# Altium integrated library Microchip Mixed Signal.IntLib: 1399 symbols (part 25 of 39)
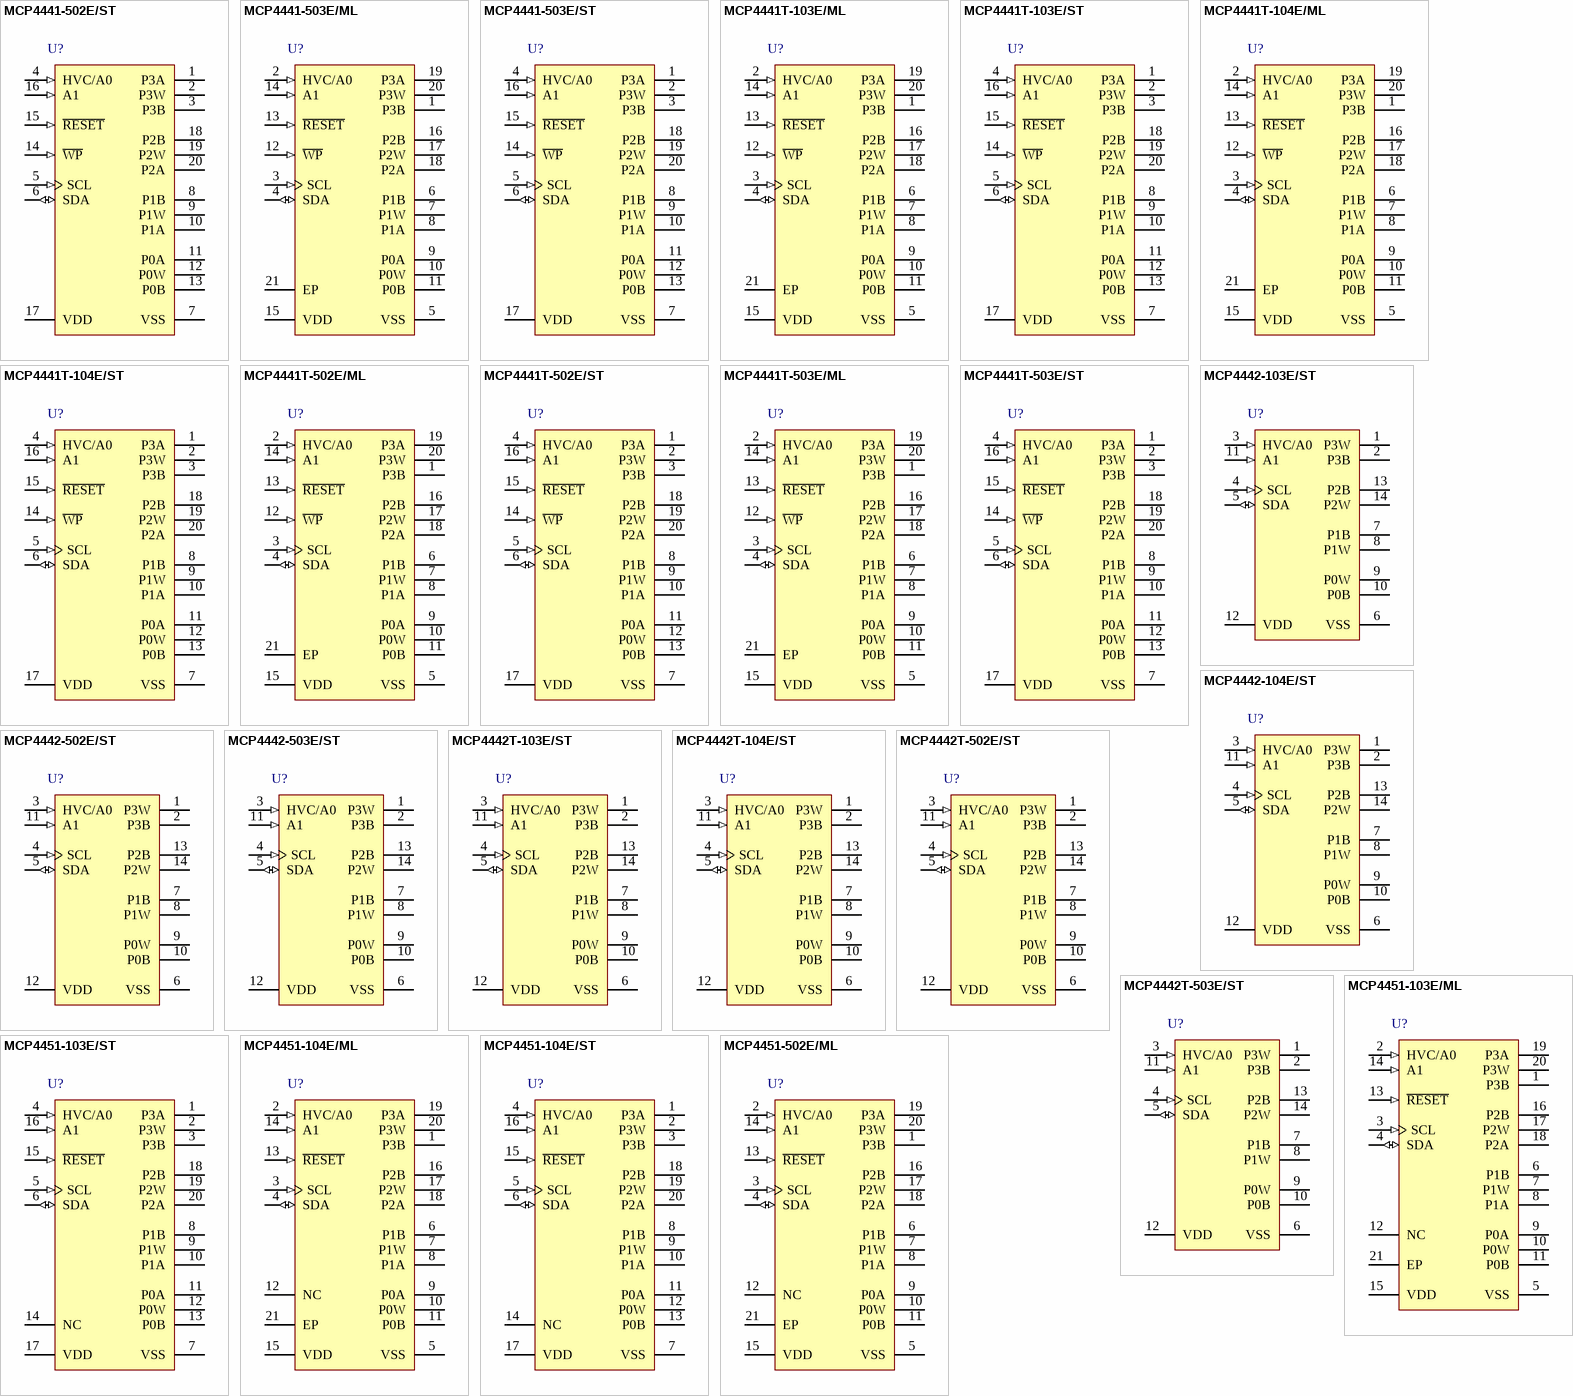
[diagram p68: symbols MCP4441-502E/ST to MCP4451-502E/ML]

## MCP4451-104E/ML
designator U?
7/8-Bit Volatile Quad Digital POT with I2C Interface, 20-Pin QFN, Extended Temperature; Manufacturer: Microchip; PartNumber: MCP4451-104E/ML; DatasheetVersion: revA, Nov-2010; PackageVersion: revBB, Aug-2009; PackageReference: QFN-ML20; PackageDescription: 20-Lead Plastic Quad Flat, No Lead Package (ML) - 4x4x0.9 mm Body [QFN]; Supplier 1: Digi-Key; Supplier Part Number 1: MCP4451-104E/ML-ND; Supplier 2: Mouser; Supplier Part Number 2: 579-MCP4451-104E/ML; Mounting Technology: Surface Mount; ComponentLink1Description: Manufacturer URL; ComponentLink1URL: http://www.microchip.com/; ComponentLink2Description: Datasheet; ComponentLink2URL: http://ww1.microchip.com/downloads/en/DeviceDoc/MCP4451.pdf; ComponentLink3Description: Package Specification; ComponentLink3URL: http://www.microchip.com/stellent/groups/techpub_sg/documents/packagingspec/en012702.pdf
footprint QFN-ML20_N (QFN, 20-Leads, Body 4x4mm, Pitch 0.5mm, Thermal Pad 2.8x2.8mm, IPC Medium Density)
footprint QFN-ML20_L (QFN, 20-Leads, Body 4x4mm, Pitch 0.5mm, Thermal Pad 2.8x2.8mm, IPC High Density)
footprint QFN-ML20_M (QFN, 20-Leads, Body 4x4mm, Pitch 0.5mm, Thermal Pad 2.8x2.8mm, IPC Low Density)
pins: 1 P3B, 2 HVC/A0 (in), 3 SCL (in), 4 SDA (io), 5 VSS (power), 6 P1B, 7 P1W, 8 P1A, 9 P0A, 10 P0W, 11 P0B, 12 NC, 13 ~{RESET} (in), 14 A1 (in), 15 VDD (power), 16 P2B, 17 P2W, 18 P2A, 19 P3A, 20 P3W, 21 EP

## MCP4451-104E/ST
designator U?
7/8-Bit Volatile Quad Digital POT with I2C Interface, 20-Pin TSSOP, Extended Temperature; Manufacturer: Microchip; PartNumber: MCP4451-104E/ST; DatasheetVersion: revA, Nov-2010; PackageVersion: revBB, Aug-2009; PackageReference: TSSOP-ST20; PackageDescription: 20-Lead Plastic Thin Shrink Small Outline (ST) - 4.4mm Body [TSSOP]; Supplier 1: Digi-Key; Supplier Part Number 1: MCP4451-104E/ST-ND; Supplier 2: Mouser; Supplier Part Number 2: 579-MCP4451-104E/ST; Mounting Technology: Surface Mount; Code_JEDEC: MO-153-AC; ComponentLink1Description: Manufacturer URL; ComponentLink1URL: http://www.microchip.com/; ComponentLink2Description: Datasheet; ComponentLink2URL: http://ww1.microchip.com/downloads/en/DeviceDoc/MCP4451.pdf; ComponentLink3Description: Package Specification; ComponentLink3URL: http://www.microchip.com/stellent/groups/techpub_sg/documents/packagingspec/en012702.pdf
footprint TSSOP-ST20_N (TSOP, 20-Leads, Body 6.5x4.4mm, Pitch 0.65mm, IPC Medium Density)
footprint TSSOP-ST20_L (TSOP, 20-Leads, Body 6.5x4.4mm, Pitch 0.65mm, IPC High Density)
footprint TSSOP-ST20_M (TSOP, 20-Leads, Body 6.5x4.4mm, Pitch 0.65mm, IPC Low Density)
pins: 1 P3A, 2 P3W, 3 P3B, 4 HVC/A0 (in), 5 SCL (in), 6 SDA (io), 7 VSS (power), 8 P1B, 9 P1W, 10 P1A, 11 P0A, 12 P0W, 13 P0B, 14 NC, 15 ~{RESET} (in), 16 A1 (in), 17 VDD (power), 18 P2B, 19 P2W, 20 P2A

## MCP4451-502E/ML
designator U?
7/8-Bit Volatile Quad Digital POT with I2C Interface, 20-Pin QFN, Extended Temperature; Manufacturer: Microchip; PartNumber: MCP4451-502E/ML; DatasheetVersion: revA, Nov-2010; PackageVersion: revBB, Aug-2009; PackageReference: QFN-ML20; PackageDescription: 20-Lead Plastic Quad Flat, No Lead Package (ML) - 4x4x0.9 mm Body [QFN]; Supplier 1: Digi-Key; Supplier Part Number 1: MCP4451-502E/ML-ND; Supplier 2: Mouser; Supplier Part Number 2: 579-MCP4451-502E/ML; Mounting Technology: Surface Mount; ComponentLink1Description: Manufacturer URL; ComponentLink1URL: http://www.microchip.com/; ComponentLink2Description: Datasheet; ComponentLink2URL: http://ww1.microchip.com/downloads/en/DeviceDoc/MCP4451.pdf; ComponentLink3Description: Package Specification; ComponentLink3URL: http://www.microchip.com/stellent/groups/techpub_sg/documents/packagingspec/en012702.pdf
footprint QFN-ML20_N (QFN, 20-Leads, Body 4x4mm, Pitch 0.5mm, Thermal Pad 2.8x2.8mm, IPC Medium Density)
footprint QFN-ML20_L (QFN, 20-Leads, Body 4x4mm, Pitch 0.5mm, Thermal Pad 2.8x2.8mm, IPC High Density)
footprint QFN-ML20_M (QFN, 20-Leads, Body 4x4mm, Pitch 0.5mm, Thermal Pad 2.8x2.8mm, IPC Low Density)
pins: 1 P3B, 2 HVC/A0 (in), 3 SCL (in), 4 SDA (io), 5 VSS (power), 6 P1B, 7 P1W, 8 P1A, 9 P0A, 10 P0W, 11 P0B, 12 NC, 13 ~{RESET} (in), 14 A1 (in), 15 VDD (power), 16 P2B, 17 P2W, 18 P2A, 19 P3A, 20 P3W, 21 EP

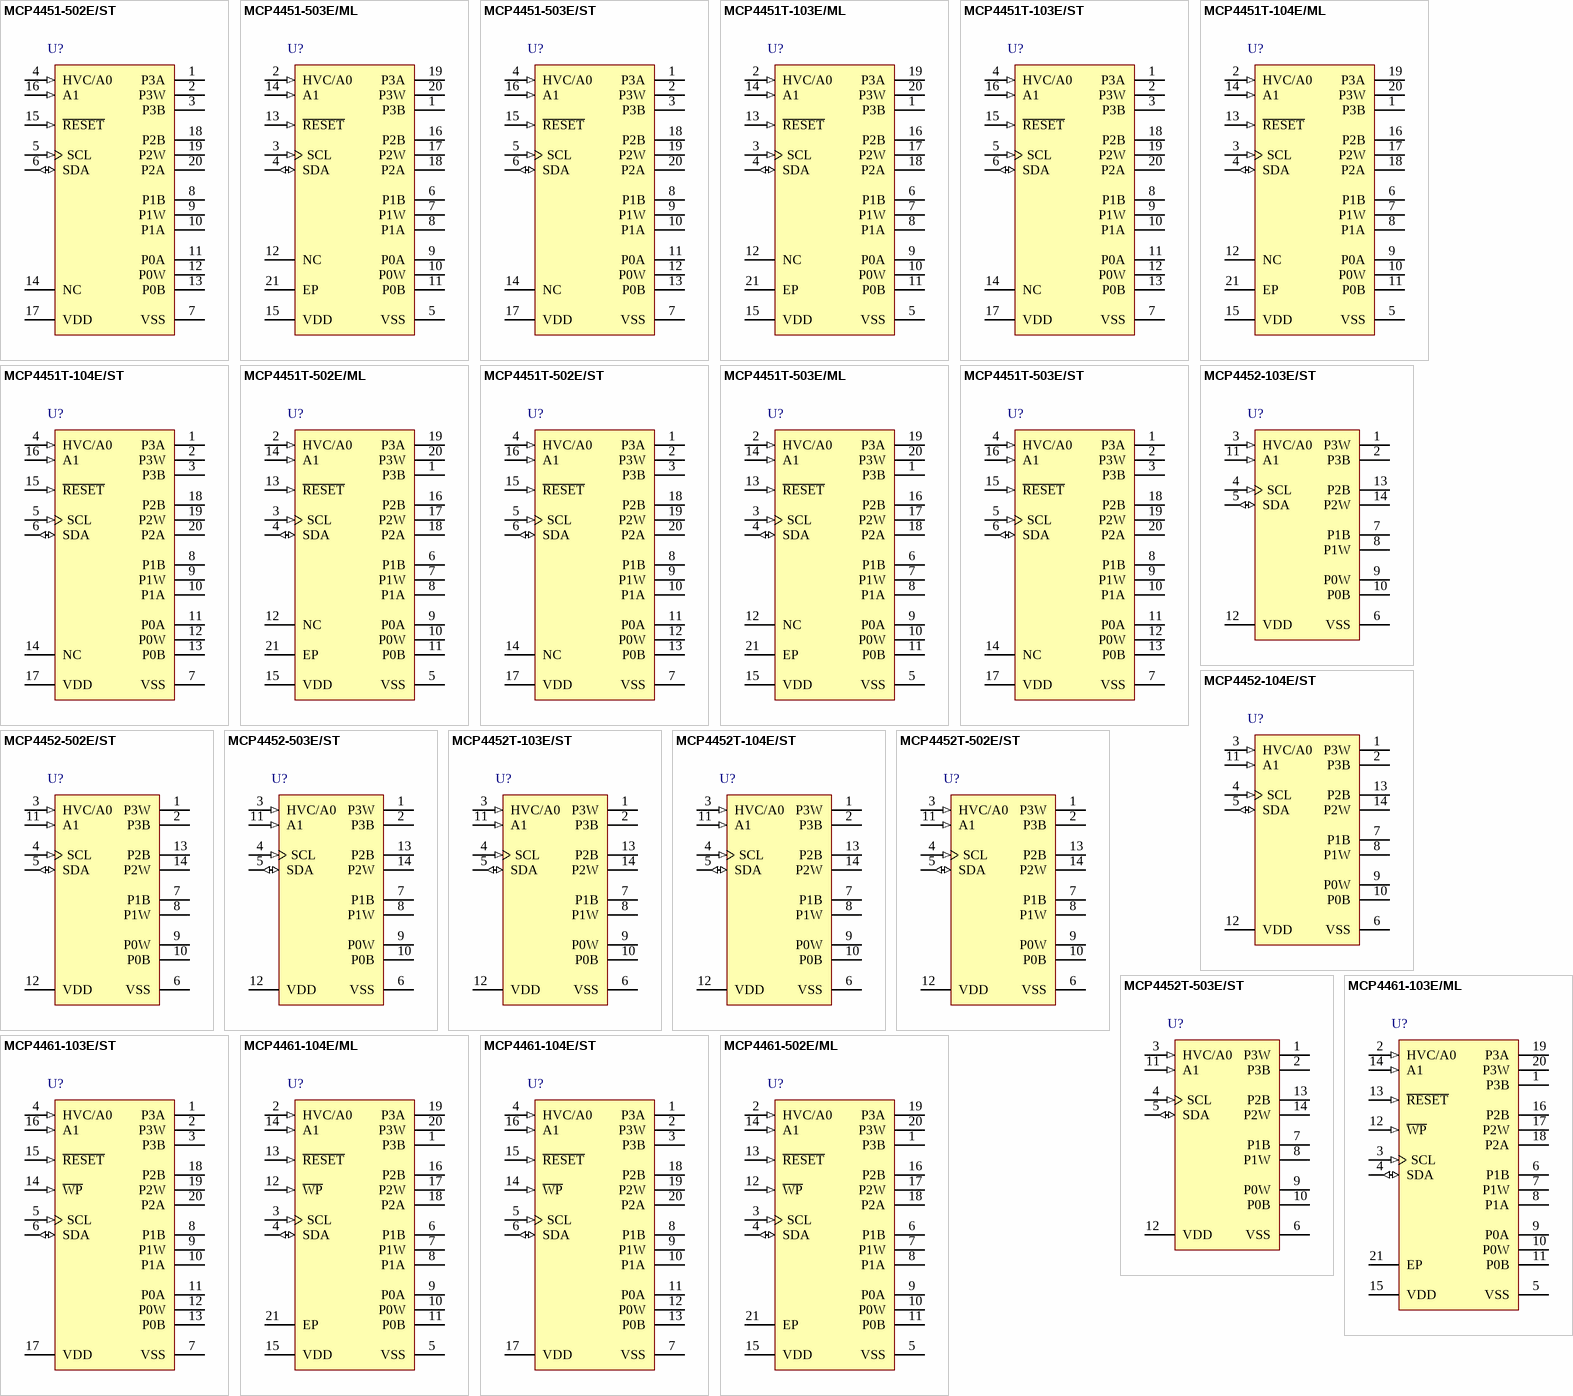
[diagram p26: symbols MCP4451-502E/ST to MCP4461-502E/ML]

## MCP4451-502E/ST
designator U?
7/8-Bit Volatile Quad Digital POT with I2C Interface, 20-Pin TSSOP, Extended Temperature; Manufacturer: Microchip; PartNumber: MCP4451-502E/ST; DatasheetVersion: revA, Nov-2010; PackageVersion: revBB, Aug-2009; PackageReference: TSSOP-ST20; PackageDescription: 20-Lead Plastic Thin Shrink Small Outline (ST) - 4.4mm Body [TSSOP]; Supplier 1: Digi-Key; Supplier Part Number 1: MCP4451-502E/ST-ND; Supplier 2: Mouser; Supplier Part Number 2: 579-MCP4451-502E/ST; Mounting Technology: Surface Mount; Code_JEDEC: MO-153-AC; ComponentLink1Description: Manufacturer URL; ComponentLink1URL: http://www.microchip.com/; ComponentLink2Description: Datasheet; ComponentLink2URL: http://ww1.microchip.com/downloads/en/DeviceDoc/MCP4451.pdf; ComponentLink3Description: Package Specification; ComponentLink3URL: http://www.microchip.com/stellent/groups/techpub_sg/documents/packagingspec/en012702.pdf
footprint TSSOP-ST20_N (TSOP, 20-Leads, Body 6.5x4.4mm, Pitch 0.65mm, IPC Medium Density)
footprint TSSOP-ST20_L (TSOP, 20-Leads, Body 6.5x4.4mm, Pitch 0.65mm, IPC High Density)
footprint TSSOP-ST20_M (TSOP, 20-Leads, Body 6.5x4.4mm, Pitch 0.65mm, IPC Low Density)
pins: 1 P3A, 2 P3W, 3 P3B, 4 HVC/A0 (in), 5 SCL (in), 6 SDA (io), 7 VSS (power), 8 P1B, 9 P1W, 10 P1A, 11 P0A, 12 P0W, 13 P0B, 14 NC, 15 ~{RESET} (in), 16 A1 (in), 17 VDD (power), 18 P2B, 19 P2W, 20 P2A

## MCP4451-503E/ML
designator U?
7/8-Bit Volatile Quad Digital POT with I2C Interface, 20-Pin QFN, Extended Temperature; Manufacturer: Microchip; PartNumber: MCP4451-503E/ML; DatasheetVersion: revA, Nov-2010; PackageVersion: revBB, Aug-2009; PackageReference: QFN-ML20; PackageDescription: 20-Lead Plastic Quad Flat, No Lead Package (ML) - 4x4x0.9 mm Body [QFN]; Supplier 1: Digi-Key; Supplier Part Number 1: MCP4451-503E/ML-ND; Supplier 2: Mouser; Supplier Part Number 2: 579-MCP4451-503E/ML; Mounting Technology: Surface Mount; ComponentLink1Description: Manufacturer URL; ComponentLink1URL: http://www.microchip.com/; ComponentLink2Description: Datasheet; ComponentLink2URL: http://ww1.microchip.com/downloads/en/DeviceDoc/MCP4451.pdf; ComponentLink3Description: Package Specification; ComponentLink3URL: http://www.microchip.com/stellent/groups/techpub_sg/documents/packagingspec/en012702.pdf
footprint QFN-ML20_N (QFN, 20-Leads, Body 4x4mm, Pitch 0.5mm, Thermal Pad 2.8x2.8mm, IPC Medium Density)
footprint QFN-ML20_L (QFN, 20-Leads, Body 4x4mm, Pitch 0.5mm, Thermal Pad 2.8x2.8mm, IPC High Density)
footprint QFN-ML20_M (QFN, 20-Leads, Body 4x4mm, Pitch 0.5mm, Thermal Pad 2.8x2.8mm, IPC Low Density)
pins: 1 P3B, 2 HVC/A0 (in), 3 SCL (in), 4 SDA (io), 5 VSS (power), 6 P1B, 7 P1W, 8 P1A, 9 P0A, 10 P0W, 11 P0B, 12 NC, 13 ~{RESET} (in), 14 A1 (in), 15 VDD (power), 16 P2B, 17 P2W, 18 P2A, 19 P3A, 20 P3W, 21 EP

## MCP4451-503E/ST
designator U?
7/8-Bit Volatile Quad Digital POT with I2C Interface, 20-Pin TSSOP, Extended Temperature; Manufacturer: Microchip; PartNumber: MCP4451-503E/ST; DatasheetVersion: revA, Nov-2010; PackageVersion: revBB, Aug-2009; PackageReference: TSSOP-ST20; PackageDescription: 20-Lead Plastic Thin Shrink Small Outline (ST) - 4.4mm Body [TSSOP]; Supplier 1: Digi-Key; Supplier Part Number 1: MCP4451-503E/ST-ND; Supplier 2: Mouser; Supplier Part Number 2: 579-MCP4451-503E/ST; Mounting Technology: Surface Mount; Code_JEDEC: MO-153-AC; ComponentLink1Description: Manufacturer URL; ComponentLink1URL: http://www.microchip.com/; ComponentLink2Description: Datasheet; ComponentLink2URL: http://ww1.microchip.com/downloads/en/DeviceDoc/MCP4451.pdf; ComponentLink3Description: Package Specification; ComponentLink3URL: http://www.microchip.com/stellent/groups/techpub_sg/documents/packagingspec/en012702.pdf
footprint TSSOP-ST20_N (TSOP, 20-Leads, Body 6.5x4.4mm, Pitch 0.65mm, IPC Medium Density)
footprint TSSOP-ST20_L (TSOP, 20-Leads, Body 6.5x4.4mm, Pitch 0.65mm, IPC High Density)
footprint TSSOP-ST20_M (TSOP, 20-Leads, Body 6.5x4.4mm, Pitch 0.65mm, IPC Low Density)
pins: 1 P3A, 2 P3W, 3 P3B, 4 HVC/A0 (in), 5 SCL (in), 6 SDA (io), 7 VSS (power), 8 P1B, 9 P1W, 10 P1A, 11 P0A, 12 P0W, 13 P0B, 14 NC, 15 ~{RESET} (in), 16 A1 (in), 17 VDD (power), 18 P2B, 19 P2W, 20 P2A

## MCP4451T-103E/ML
designator U?
7/8-Bit Volatile Quad Digital POT with I2C Interface, 20-Pin QFN, Extended Temperature, Tape and Reel; Manufacturer: Microchip; PartNumber: MCP4451T-103E/ML; DatasheetVersion: revA, Nov-2010; PackageVersion: revBB, Aug-2009; PackageReference: QFN-ML20; PackageDescription: 20-Lead Plastic Quad Flat, No Lead Package (ML) - 4x4x0.9 mm Body [QFN]; Mounting Technology: Surface Mount; ComponentLink1Description: Manufacturer URL; ComponentLink1URL: http://www.microchip.com/; ComponentLink2Description: Datasheet; ComponentLink2URL: http://ww1.microchip.com/downloads/en/DeviceDoc/MCP4451.pdf; ComponentLink3Description: Package Specification; ComponentLink3URL: http://www.microchip.com/stellent/groups/techpub_sg/documents/packagingspec/en012702.pdf
footprint QFN-ML20_N (QFN, 20-Leads, Body 4x4mm, Pitch 0.5mm, Thermal Pad 2.8x2.8mm, IPC Medium Density)
footprint QFN-ML20_L (QFN, 20-Leads, Body 4x4mm, Pitch 0.5mm, Thermal Pad 2.8x2.8mm, IPC High Density)
footprint QFN-ML20_M (QFN, 20-Leads, Body 4x4mm, Pitch 0.5mm, Thermal Pad 2.8x2.8mm, IPC Low Density)
pins: 1 P3B, 2 HVC/A0 (in), 3 SCL (in), 4 SDA (io), 5 VSS (power), 6 P1B, 7 P1W, 8 P1A, 9 P0A, 10 P0W, 11 P0B, 12 NC, 13 ~{RESET} (in), 14 A1 (in), 15 VDD (power), 16 P2B, 17 P2W, 18 P2A, 19 P3A, 20 P3W, 21 EP

## MCP4451T-103E/ST
designator U?
7/8-Bit Volatile Quad Digital POT with I2C Interface, 20-Pin TSSOP, Extended Temperature, Tape and Reel; Manufacturer: Microchip; PartNumber: MCP4451T-103E/ST; DatasheetVersion: revA, Nov-2010; PackageVersion: revBB, Aug-2009; PackageReference: TSSOP-ST20; PackageDescription: 20-Lead Plastic Thin Shrink Small Outline (ST) - 4.4mm Body [TSSOP]; Supplier 1: Digi-Key; Supplier Part Number 1: MCP4451T-103E/ST-ND; Supplier 2: Newark; Supplier Part Number 2: 47W6600; Supplier 3: Mouser; Supplier Part Number 3: 579-MCP4451T-103E/ST; Mounting Technology: Surface Mount; Code_JEDEC: MO-153-AC; ComponentLink1Description: Manufacturer URL; ComponentLink1URL: http://www.microchip.com/; ComponentLink2Description: Datasheet; ComponentLink2URL: http://ww1.microchip.com/downloads/en/DeviceDoc/MCP4451.pdf; ComponentLink3Description: Package Specification; ComponentLink3URL: http://www.microchip.com/stellent/groups/techpub_sg/documents/packagingspec/en012702.pdf
footprint TSSOP-ST20_N (TSOP, 20-Leads, Body 6.5x4.4mm, Pitch 0.65mm, IPC Medium Density)
footprint TSSOP-ST20_L (TSOP, 20-Leads, Body 6.5x4.4mm, Pitch 0.65mm, IPC High Density)
footprint TSSOP-ST20_M (TSOP, 20-Leads, Body 6.5x4.4mm, Pitch 0.65mm, IPC Low Density)
pins: 1 P3A, 2 P3W, 3 P3B, 4 HVC/A0 (in), 5 SCL (in), 6 SDA (io), 7 VSS (power), 8 P1B, 9 P1W, 10 P1A, 11 P0A, 12 P0W, 13 P0B, 14 NC, 15 ~{RESET} (in), 16 A1 (in), 17 VDD (power), 18 P2B, 19 P2W, 20 P2A

## MCP4451T-104E/ML
designator U?
7/8-Bit Volatile Quad Digital POT with I2C Interface, 20-Pin QFN, Extended Temperature, Tape and Reel; Manufacturer: Microchip; PartNumber: MCP4451T-104E/ML; DatasheetVersion: revA, Nov-2010; PackageVersion: revBB, Aug-2009; PackageReference: QFN-ML20; PackageDescription: 20-Lead Plastic Quad Flat, No Lead Package (ML) - 4x4x0.9 mm Body [QFN]; Supplier 1: Digi-Key; Supplier Part Number 1: MCP4451T-104E/ML-ND; Supplier 2: Newark; Supplier Part Number 2: 47W6601; Supplier 3: Mouser; Supplier Part Number 3: 579-MCP4451T-104E/ML; Mounting Technology: Surface Mount; ComponentLink1Description: Manufacturer URL; ComponentLink1URL: http://www.microchip.com/; ComponentLink2Description: Datasheet; ComponentLink2URL: http://ww1.microchip.com/downloads/en/DeviceDoc/MCP4451.pdf; ComponentLink3Description: Package Specification; ComponentLink3URL: http://www.microchip.com/stellent/groups/techpub_sg/documents/packagingspec/en012702.pdf
footprint QFN-ML20_N (QFN, 20-Leads, Body 4x4mm, Pitch 0.5mm, Thermal Pad 2.8x2.8mm, IPC Medium Density)
footprint QFN-ML20_L (QFN, 20-Leads, Body 4x4mm, Pitch 0.5mm, Thermal Pad 2.8x2.8mm, IPC High Density)
footprint QFN-ML20_M (QFN, 20-Leads, Body 4x4mm, Pitch 0.5mm, Thermal Pad 2.8x2.8mm, IPC Low Density)
pins: 1 P3B, 2 HVC/A0 (in), 3 SCL (in), 4 SDA (io), 5 VSS (power), 6 P1B, 7 P1W, 8 P1A, 9 P0A, 10 P0W, 11 P0B, 12 NC, 13 ~{RESET} (in), 14 A1 (in), 15 VDD (power), 16 P2B, 17 P2W, 18 P2A, 19 P3A, 20 P3W, 21 EP

## MCP4451T-104E/ST
designator U?
7/8-Bit Volatile Quad Digital POT with I2C Interface, 20-Pin TSSOP, Extended Temperature, Tape and Reel; Manufacturer: Microchip; PartNumber: MCP4451T-104E/ST; DatasheetVersion: revA, Nov-2010; PackageVersion: revBB, Aug-2009; PackageReference: TSSOP-ST20; PackageDescription: 20-Lead Plastic Thin Shrink Small Outline (ST) - 4.4mm Body [TSSOP]; Supplier 1: Digi-Key; Supplier Part Number 1: MCP4451T-104E/ST-ND; Supplier 2: Newark; Supplier Part Number 2: 47W6602; Supplier 3: Mouser; Supplier Part Number 3: 579-MCP4451T-104E/ST; Mounting Technology: Surface Mount; Code_JEDEC: MO-153-AC; ComponentLink1Description: Manufacturer URL; ComponentLink1URL: http://www.microchip.com/; ComponentLink2Description: Datasheet; ComponentLink2URL: http://ww1.microchip.com/downloads/en/DeviceDoc/MCP4451.pdf; ComponentLink3Description: Package Specification; ComponentLink3URL: http://www.microchip.com/stellent/groups/techpub_sg/documents/packagingspec/en012702.pdf
footprint TSSOP-ST20_N (TSOP, 20-Leads, Body 6.5x4.4mm, Pitch 0.65mm, IPC Medium Density)
footprint TSSOP-ST20_L (TSOP, 20-Leads, Body 6.5x4.4mm, Pitch 0.65mm, IPC High Density)
footprint TSSOP-ST20_M (TSOP, 20-Leads, Body 6.5x4.4mm, Pitch 0.65mm, IPC Low Density)
pins: 1 P3A, 2 P3W, 3 P3B, 4 HVC/A0 (in), 5 SCL (in), 6 SDA (io), 7 VSS (power), 8 P1B, 9 P1W, 10 P1A, 11 P0A, 12 P0W, 13 P0B, 14 NC, 15 ~{RESET} (in), 16 A1 (in), 17 VDD (power), 18 P2B, 19 P2W, 20 P2A

## MCP4451T-502E/ML
designator U?
7/8-Bit Volatile Quad Digital POT with I2C Interface, 20-Pin QFN, Extended Temperature, Tape and Reel; Manufacturer: Microchip; PartNumber: MCP4451T-502E/ML; DatasheetVersion: revA, Nov-2010; PackageVersion: revBB, Aug-2009; PackageReference: QFN-ML20; PackageDescription: 20-Lead Plastic Quad Flat, No Lead Package (ML) - 4x4x0.9 mm Body [QFN]; Supplier 1: Digi-Key; Supplier Part Number 1: MCP4451T-502E/ML-ND; Supplier 2: Newark; Supplier Part Number 2: 47W6603; Supplier 3: Mouser; Supplier Part Number 3: 579-MCP4451T-502E/ML; Mounting Technology: Surface Mount; ComponentLink1Description: Manufacturer URL; ComponentLink1URL: http://www.microchip.com/; ComponentLink2Description: Datasheet; ComponentLink2URL: http://ww1.microchip.com/downloads/en/DeviceDoc/MCP4451.pdf; ComponentLink3Description: Package Specification; ComponentLink3URL: http://www.microchip.com/stellent/groups/techpub_sg/documents/packagingspec/en012702.pdf
footprint QFN-ML20_N (QFN, 20-Leads, Body 4x4mm, Pitch 0.5mm, Thermal Pad 2.8x2.8mm, IPC Medium Density)
footprint QFN-ML20_L (QFN, 20-Leads, Body 4x4mm, Pitch 0.5mm, Thermal Pad 2.8x2.8mm, IPC High Density)
footprint QFN-ML20_M (QFN, 20-Leads, Body 4x4mm, Pitch 0.5mm, Thermal Pad 2.8x2.8mm, IPC Low Density)
pins: 1 P3B, 2 HVC/A0 (in), 3 SCL (in), 4 SDA (io), 5 VSS (power), 6 P1B, 7 P1W, 8 P1A, 9 P0A, 10 P0W, 11 P0B, 12 NC, 13 ~{RESET} (in), 14 A1 (in), 15 VDD (power), 16 P2B, 17 P2W, 18 P2A, 19 P3A, 20 P3W, 21 EP

## MCP4451T-502E/ST
designator U?
7/8-Bit Volatile Quad Digital POT with I2C Interface, 20-Pin TSSOP, Extended Temperature, Tape and Reel; Manufacturer: Microchip; PartNumber: MCP4451T-502E/ST; DatasheetVersion: revA, Nov-2010; PackageVersion: revBB, Aug-2009; PackageReference: TSSOP-ST20; PackageDescription: 20-Lead Plastic Thin Shrink Small Outline (ST) - 4.4mm Body [TSSOP]; Supplier 1: Digi-Key; Supplier Part Number 1: MCP4451T-502E/ST-ND; Supplier 2: Newark; Supplier Part Number 2: 47W6604; Supplier 3: Mouser; Supplier Part Number 3: 579-MCP4451T-502E/ST; Mounting Technology: Surface Mount; Code_JEDEC: MO-153-AC; ComponentLink1Description: Manufacturer URL; ComponentLink1URL: http://www.microchip.com/; ComponentLink2Description: Datasheet; ComponentLink2URL: http://ww1.microchip.com/downloads/en/DeviceDoc/MCP4451.pdf; ComponentLink3Description: Package Specification; ComponentLink3URL: http://www.microchip.com/stellent/groups/techpub_sg/documents/packagingspec/en012702.pdf
footprint TSSOP-ST20_N (TSOP, 20-Leads, Body 6.5x4.4mm, Pitch 0.65mm, IPC Medium Density)
footprint TSSOP-ST20_L (TSOP, 20-Leads, Body 6.5x4.4mm, Pitch 0.65mm, IPC High Density)
footprint TSSOP-ST20_M (TSOP, 20-Leads, Body 6.5x4.4mm, Pitch 0.65mm, IPC Low Density)
pins: 1 P3A, 2 P3W, 3 P3B, 4 HVC/A0 (in), 5 SCL (in), 6 SDA (io), 7 VSS (power), 8 P1B, 9 P1W, 10 P1A, 11 P0A, 12 P0W, 13 P0B, 14 NC, 15 ~{RESET} (in), 16 A1 (in), 17 VDD (power), 18 P2B, 19 P2W, 20 P2A

## MCP4451T-503E/ML
designator U?
7/8-Bit Volatile Quad Digital POT with I2C Interface, 20-Pin QFN, Extended Temperature, Tape and Reel; Manufacturer: Microchip; PartNumber: MCP4451T-503E/ML; DatasheetVersion: revA, Nov-2010; PackageVersion: revBB, Aug-2009; PackageReference: QFN-ML20; PackageDescription: 20-Lead Plastic Quad Flat, No Lead Package (ML) - 4x4x0.9 mm Body [QFN]; Supplier 1: Digi-Key; Supplier Part Number 1: MCP4451T-503E/ML-ND; Supplier 2: Newark; Supplier Part Number 2: 47W6605; Supplier 3: Mouser; Supplier Part Number 3: 579-MCP4451T-503E/ML; Mounting Technology: Surface Mount; ComponentLink1Description: Manufacturer URL; ComponentLink1URL: http://www.microchip.com/; ComponentLink2Description: Datasheet; ComponentLink2URL: http://ww1.microchip.com/downloads/en/DeviceDoc/MCP4451.pdf; ComponentLink3Description: Package Specification; ComponentLink3URL: http://www.microchip.com/stellent/groups/techpub_sg/documents/packagingspec/en012702.pdf
footprint QFN-ML20_N (QFN, 20-Leads, Body 4x4mm, Pitch 0.5mm, Thermal Pad 2.8x2.8mm, IPC Medium Density)
footprint QFN-ML20_L (QFN, 20-Leads, Body 4x4mm, Pitch 0.5mm, Thermal Pad 2.8x2.8mm, IPC High Density)
footprint QFN-ML20_M (QFN, 20-Leads, Body 4x4mm, Pitch 0.5mm, Thermal Pad 2.8x2.8mm, IPC Low Density)
pins: 1 P3B, 2 HVC/A0 (in), 3 SCL (in), 4 SDA (io), 5 VSS (power), 6 P1B, 7 P1W, 8 P1A, 9 P0A, 10 P0W, 11 P0B, 12 NC, 13 ~{RESET} (in), 14 A1 (in), 15 VDD (power), 16 P2B, 17 P2W, 18 P2A, 19 P3A, 20 P3W, 21 EP

## MCP4451T-503E/ST
designator U?
7/8-Bit Volatile Quad Digital POT with I2C Interface, 20-Pin TSSOP, Extended Temperature, Tape and Reel; Manufacturer: Microchip; PartNumber: MCP4451T-503E/ST; DatasheetVersion: revA, Nov-2010; PackageVersion: revBB, Aug-2009; PackageReference: TSSOP-ST20; PackageDescription: 20-Lead Plastic Thin Shrink Small Outline (ST) - 4.4mm Body [TSSOP]; Supplier 1: Digi-Key; Supplier Part Number 1: MCP4451T-503E/ST-ND; Supplier 2: Newark; Supplier Part Number 2: 47W6606; Supplier 3: Mouser; Supplier Part Number 3: 579-MCP4451T-503E/ST; Mounting Technology: Surface Mount; Code_JEDEC: MO-153-AC; ComponentLink1Description: Manufacturer URL; ComponentLink1URL: http://www.microchip.com/; ComponentLink2Description: Datasheet; ComponentLink2URL: http://ww1.microchip.com/downloads/en/DeviceDoc/MCP4451.pdf; ComponentLink3Description: Package Specification; ComponentLink3URL: http://www.microchip.com/stellent/groups/techpub_sg/documents/packagingspec/en012702.pdf
footprint TSSOP-ST20_N (TSOP, 20-Leads, Body 6.5x4.4mm, Pitch 0.65mm, IPC Medium Density)
footprint TSSOP-ST20_L (TSOP, 20-Leads, Body 6.5x4.4mm, Pitch 0.65mm, IPC High Density)
footprint TSSOP-ST20_M (TSOP, 20-Leads, Body 6.5x4.4mm, Pitch 0.65mm, IPC Low Density)
pins: 1 P3A, 2 P3W, 3 P3B, 4 HVC/A0 (in), 5 SCL (in), 6 SDA (io), 7 VSS (power), 8 P1B, 9 P1W, 10 P1A, 11 P0A, 12 P0W, 13 P0B, 14 NC, 15 ~{RESET} (in), 16 A1 (in), 17 VDD (power), 18 P2B, 19 P2W, 20 P2A

## MCP4452-103E/ST
designator U?
7/8-Bit Volatile Quad Digital POT with I2C Interface, 14-Pin TSSOP, Extended Temperature; Manufacturer: Microchip; PartNumber: MCP4452-103E/ST; DatasheetVersion: revA, Nov-2010; PackageVersion: revBB, Aug-2009; PackageReference: TSSOP-ST14; PackageDescription: 14-Lead Plastic Thin Shrink Small Outline (ST) - 4.4mm Body [TSSOP]; Supplier 1: Digi-Key; Supplier Part Number 1: MCP4452-103E/ST-ND; Supplier 2: Mouser; Supplier Part Number 2: 579-MCP4452-103E/ST; Mounting Technology: Surface Mount; ComponentLink1Description: Manufacturer URL; ComponentLink1URL: http://www.microchip.com/; ComponentLink2Description: Datasheet; ComponentLink2URL: http://ww1.microchip.com/downloads/en/DeviceDoc/MCP4452.pdf; ComponentLink3Description: Package Specification; ComponentLink3URL: http://www.microchip.com/stellent/groups/techpub_sg/documents/packagingspec/en012702.pdf
footprint TSSOP-ST14_N (TSOP, 14-Leads, Body 5x4.4mm, Pitch 0.65mm, IPC Medium Density)
footprint TSSOP-ST14_L (TSOP, 14-Leads, Body 5x4.4mm, Pitch 0.65mm, IPC High Density)
footprint TSSOP-ST14_M (TSOP, 14-Leads, Body 5x4.4mm, Pitch 0.65mm, IPC Low Density)
pins: 1 P3W, 2 P3B, 3 HVC/A0 (in), 4 SCL (in), 5 SDA (io), 6 VSS (power), 7 P1B, 8 P1W, 9 P0W, 10 P0B, 11 A1 (in), 12 VDD (power), 13 P2B, 14 P2W

## MCP4452-104E/ST
designator U?
7/8-Bit Volatile Quad Digital POT with I2C Interface, 14-Pin TSSOP, Extended Temperature; Manufacturer: Microchip; PartNumber: MCP4452-104E/ST; DatasheetVersion: revA, Nov-2010; PackageVersion: revBB, Aug-2009; PackageReference: TSSOP-ST14; PackageDescription: 14-Lead Plastic Thin Shrink Small Outline (ST) - 4.4mm Body [TSSOP]; Supplier 1: Digi-Key; Supplier Part Number 1: MCP4452-104E/ST-ND; Supplier 2: Newark; Supplier Part Number 2: 23T2813; Supplier 3: Mouser; Supplier Part Number 3: 579-MCP4452-104E/ST; Mounting Technology: Surface Mount; ComponentLink1Description: Manufacturer URL; ComponentLink1URL: http://www.microchip.com/; ComponentLink2Description: Datasheet; ComponentLink2URL: http://ww1.microchip.com/downloads/en/DeviceDoc/MCP4452.pdf; ComponentLink3Description: Package Specification; ComponentLink3URL: http://www.microchip.com/stellent/groups/techpub_sg/documents/packagingspec/en012702.pdf
footprint TSSOP-ST14_N (TSOP, 14-Leads, Body 5x4.4mm, Pitch 0.65mm, IPC Medium Density)
footprint TSSOP-ST14_L (TSOP, 14-Leads, Body 5x4.4mm, Pitch 0.65mm, IPC High Density)
footprint TSSOP-ST14_M (TSOP, 14-Leads, Body 5x4.4mm, Pitch 0.65mm, IPC Low Density)
pins: 1 P3W, 2 P3B, 3 HVC/A0 (in), 4 SCL (in), 5 SDA (io), 6 VSS (power), 7 P1B, 8 P1W, 9 P0W, 10 P0B, 11 A1 (in), 12 VDD (power), 13 P2B, 14 P2W

## MCP4452-502E/ST
designator U?
7/8-Bit Volatile Quad Digital POT with I2C Interface, 14-Pin TSSOP, Extended Temperature; Manufacturer: Microchip; PartNumber: MCP4452-502E/ST; DatasheetVersion: revA, Nov-2010; PackageVersion: revBB, Aug-2009; PackageReference: TSSOP-ST14; PackageDescription: 14-Lead Plastic Thin Shrink Small Outline (ST) - 4.4mm Body [TSSOP]; Supplier 1: Digi-Key; Supplier Part Number 1: MCP4452-502E/ST-ND; Supplier 2: Mouser; Supplier Part Number 2: 579-MCP4452-502E/ST; Mounting Technology: Surface Mount; ComponentLink1Description: Manufacturer URL; ComponentLink1URL: http://www.microchip.com/; ComponentLink2Description: Datasheet; ComponentLink2URL: http://ww1.microchip.com/downloads/en/DeviceDoc/MCP4452.pdf; ComponentLink3Description: Package Specification; ComponentLink3URL: http://www.microchip.com/stellent/groups/techpub_sg/documents/packagingspec/en012702.pdf
footprint TSSOP-ST14_N (TSOP, 14-Leads, Body 5x4.4mm, Pitch 0.65mm, IPC Medium Density)
footprint TSSOP-ST14_L (TSOP, 14-Leads, Body 5x4.4mm, Pitch 0.65mm, IPC High Density)
footprint TSSOP-ST14_M (TSOP, 14-Leads, Body 5x4.4mm, Pitch 0.65mm, IPC Low Density)
pins: 1 P3W, 2 P3B, 3 HVC/A0 (in), 4 SCL (in), 5 SDA (io), 6 VSS (power), 7 P1B, 8 P1W, 9 P0W, 10 P0B, 11 A1 (in), 12 VDD (power), 13 P2B, 14 P2W

## MCP4452-503E/ST
designator U?
7/8-Bit Volatile Quad Digital POT with I2C Interface, 14-Pin TSSOP, Extended Temperature; Manufacturer: Microchip; PartNumber: MCP4452-503E/ST; DatasheetVersion: revA, Nov-2010; PackageVersion: revBB, Aug-2009; PackageReference: TSSOP-ST14; PackageDescription: 14-Lead Plastic Thin Shrink Small Outline (ST) - 4.4mm Body [TSSOP]; Supplier 1: Digi-Key; Supplier Part Number 1: MCP4452-503E/ST-ND; Supplier 2: Mouser; Supplier Part Number 2: 579-MCP4452-503E/ST; Mounting Technology: Surface Mount; ComponentLink1Description: Manufacturer URL; ComponentLink1URL: http://www.microchip.com/; ComponentLink2Description: Datasheet; ComponentLink2URL: http://ww1.microchip.com/downloads/en/DeviceDoc/MCP4452.pdf; ComponentLink3Description: Package Specification; ComponentLink3URL: http://www.microchip.com/stellent/groups/techpub_sg/documents/packagingspec/en012702.pdf
footprint TSSOP-ST14_N (TSOP, 14-Leads, Body 5x4.4mm, Pitch 0.65mm, IPC Medium Density)
footprint TSSOP-ST14_L (TSOP, 14-Leads, Body 5x4.4mm, Pitch 0.65mm, IPC High Density)
footprint TSSOP-ST14_M (TSOP, 14-Leads, Body 5x4.4mm, Pitch 0.65mm, IPC Low Density)
pins: 1 P3W, 2 P3B, 3 HVC/A0 (in), 4 SCL (in), 5 SDA (io), 6 VSS (power), 7 P1B, 8 P1W, 9 P0W, 10 P0B, 11 A1 (in), 12 VDD (power), 13 P2B, 14 P2W

## MCP4452T-103E/ST
designator U?
7/8-Bit Volatile Quad Digital POT with I2C Interface, 14-Pin TSSOP, Extended Temperature, Tape and Reel; Manufacturer: Microchip; PartNumber: MCP4452T-103E/ST; DatasheetVersion: revA, Nov-2010; PackageVersion: revBB, Aug-2009; PackageReference: TSSOP-ST14; PackageDescription: 14-Lead Plastic Thin Shrink Small Outline (ST) - 4.4mm Body [TSSOP]; Supplier 1: Digi-Key; Supplier Part Number 1: MCP4452T-103E/ST-ND; Supplier 2: Newark; Supplier Part Number 2: 47W6607; Supplier 3: Mouser; Supplier Part Number 3: 579-MCP4452T-103E/ST; Mounting Technology: Surface Mount; ComponentLink1Description: Manufacturer URL; ComponentLink1URL: http://www.microchip.com/; ComponentLink2Description: Datasheet; ComponentLink2URL: http://ww1.microchip.com/downloads/en/DeviceDoc/MCP4452.pdf; ComponentLink3Description: Package Specification; ComponentLink3URL: http://www.microchip.com/stellent/groups/techpub_sg/documents/packagingspec/en012702.pdf
footprint TSSOP-ST14_N (TSOP, 14-Leads, Body 5x4.4mm, Pitch 0.65mm, IPC Medium Density)
footprint TSSOP-ST14_L (TSOP, 14-Leads, Body 5x4.4mm, Pitch 0.65mm, IPC High Density)
footprint TSSOP-ST14_M (TSOP, 14-Leads, Body 5x4.4mm, Pitch 0.65mm, IPC Low Density)
pins: 1 P3W, 2 P3B, 3 HVC/A0 (in), 4 SCL (in), 5 SDA (io), 6 VSS (power), 7 P1B, 8 P1W, 9 P0W, 10 P0B, 11 A1 (in), 12 VDD (power), 13 P2B, 14 P2W

## MCP4452T-104E/ST
designator U?
7/8-Bit Volatile Quad Digital POT with I2C Interface, 14-Pin TSSOP, Extended Temperature, Tape and Reel; Manufacturer: Microchip; PartNumber: MCP4452T-104E/ST; DatasheetVersion: revA, Nov-2010; PackageVersion: revBB, Aug-2009; PackageReference: TSSOP-ST14; PackageDescription: 14-Lead Plastic Thin Shrink Small Outline (ST) - 4.4mm Body [TSSOP]; Supplier 1: Digi-Key; Supplier Part Number 1: MCP4452T-104E/ST-ND; Supplier 2: Newark; Supplier Part Number 2: 47W6608; Supplier 3: Mouser; Supplier Part Number 3: 579-MCP4452T-104E/ST; Mounting Technology: Surface Mount; ComponentLink1Description: Manufacturer URL; ComponentLink1URL: http://www.microchip.com/; ComponentLink2Description: Datasheet; ComponentLink2URL: http://ww1.microchip.com/downloads/en/DeviceDoc/MCP4452.pdf; ComponentLink3Description: Package Specification; ComponentLink3URL: http://www.microchip.com/stellent/groups/techpub_sg/documents/packagingspec/en012702.pdf
footprint TSSOP-ST14_N (TSOP, 14-Leads, Body 5x4.4mm, Pitch 0.65mm, IPC Medium Density)
footprint TSSOP-ST14_L (TSOP, 14-Leads, Body 5x4.4mm, Pitch 0.65mm, IPC High Density)
footprint TSSOP-ST14_M (TSOP, 14-Leads, Body 5x4.4mm, Pitch 0.65mm, IPC Low Density)
pins: 1 P3W, 2 P3B, 3 HVC/A0 (in), 4 SCL (in), 5 SDA (io), 6 VSS (power), 7 P1B, 8 P1W, 9 P0W, 10 P0B, 11 A1 (in), 12 VDD (power), 13 P2B, 14 P2W

## MCP4452T-502E/ST
designator U?
7/8-Bit Volatile Quad Digital POT with I2C Interface, 14-Pin TSSOP, Extended Temperature, Tape and Reel; Manufacturer: Microchip; PartNumber: MCP4452T-502E/ST; DatasheetVersion: revA, Nov-2010; PackageVersion: revBB, Aug-2009; PackageReference: TSSOP-ST14; PackageDescription: 14-Lead Plastic Thin Shrink Small Outline (ST) - 4.4mm Body [TSSOP]; Supplier 1: Digi-Key; Supplier Part Number 1: MCP4452T-502E/ST-ND; Supplier 2: Newark; Supplier Part Number 2: 47W6609; Supplier 3: Mouser; Supplier Part Number 3: 579-MCP4452T-502E/ST; Mounting Technology: Surface Mount; ComponentLink1Description: Manufacturer URL; ComponentLink1URL: http://www.microchip.com/; ComponentLink2Description: Datasheet; ComponentLink2URL: http://ww1.microchip.com/downloads/en/DeviceDoc/MCP4452.pdf; ComponentLink3Description: Package Specification; ComponentLink3URL: http://www.microchip.com/stellent/groups/techpub_sg/documents/packagingspec/en012702.pdf
footprint TSSOP-ST14_N (TSOP, 14-Leads, Body 5x4.4mm, Pitch 0.65mm, IPC Medium Density)
footprint TSSOP-ST14_L (TSOP, 14-Leads, Body 5x4.4mm, Pitch 0.65mm, IPC High Density)
footprint TSSOP-ST14_M (TSOP, 14-Leads, Body 5x4.4mm, Pitch 0.65mm, IPC Low Density)
pins: 1 P3W, 2 P3B, 3 HVC/A0 (in), 4 SCL (in), 5 SDA (io), 6 VSS (power), 7 P1B, 8 P1W, 9 P0W, 10 P0B, 11 A1 (in), 12 VDD (power), 13 P2B, 14 P2W

## MCP4452T-503E/ST
designator U?
7/8-Bit Volatile Quad Digital POT with I2C Interface, 14-Pin TSSOP, Extended Temperature, Tape and Reel; Manufacturer: Microchip; PartNumber: MCP4452T-503E/ST; DatasheetVersion: revA, Nov-2010; PackageVersion: revBB, Aug-2009; PackageReference: TSSOP-ST14; PackageDescription: 14-Lead Plastic Thin Shrink Small Outline (ST) - 4.4mm Body [TSSOP]; Supplier 1: Digi-Key; Supplier Part Number 1: MCP4452T-503E/ST-ND; Supplier 2: Newark; Supplier Part Number 2: 47W6610; Supplier 3: Mouser; Supplier Part Number 3: 579-MCP4452T-503E/ST; Mounting Technology: Surface Mount; ComponentLink1Description: Manufacturer URL; ComponentLink1URL: http://www.microchip.com/; ComponentLink2Description: Datasheet; ComponentLink2URL: http://ww1.microchip.com/downloads/en/DeviceDoc/MCP4452.pdf; ComponentLink3Description: Package Specification; ComponentLink3URL: http://www.microchip.com/stellent/groups/techpub_sg/documents/packagingspec/en012702.pdf
footprint TSSOP-ST14_N (TSOP, 14-Leads, Body 5x4.4mm, Pitch 0.65mm, IPC Medium Density)
footprint TSSOP-ST14_L (TSOP, 14-Leads, Body 5x4.4mm, Pitch 0.65mm, IPC High Density)
footprint TSSOP-ST14_M (TSOP, 14-Leads, Body 5x4.4mm, Pitch 0.65mm, IPC Low Density)
pins: 1 P3W, 2 P3B, 3 HVC/A0 (in), 4 SCL (in), 5 SDA (io), 6 VSS (power), 7 P1B, 8 P1W, 9 P0W, 10 P0B, 11 A1 (in), 12 VDD (power), 13 P2B, 14 P2W

## MCP4461-103E/ML
designator U?
7/8-Bit Quad I2C Digital POT with Nonvolatile Memory, 20-Pin QFN, Extended Temperature; Manufacturer: Microchip; PartNumber: MCP4461-103E/ML; DatasheetVersion: revA, Sep-2010; PackageVersion: revBB, Aug-2009; PackageReference: QFN-ML20; PackageDescription: 20-Lead Plastic Quad Flat, No Lead Package (ML) - 4x4x0.9 mm Body [QFN]; Supplier 1: Digi-Key; Supplier Part Number 1: MCP4461-103E/ML-ND; Supplier 2: Farnell; Supplier Part Number 2: 1863948; Supplier 3: Newark; Supplier Part Number 3: 91R2871; Supplier 4: Mouser; Supplier Part Number 4: 579-MCP4461-103E/ML; Mounting Technology: Surface Mount; ComponentLink1Description: Manufacturer URL; ComponentLink1URL: http://www.microchip.com/; ComponentLink2Description: Datasheet; ComponentLink2URL: http://ww1.microchip.com/downloads/en/DeviceDoc/22265a.pdf; ComponentLink3Description: Package Specification; ComponentLink3URL: http://www.microchip.com/stellent/groups/techpub_sg/documents/packagingspec/en012702.pdf
footprint QFN-ML20_N (QFN, 20-Leads, Body 4x4mm, Pitch 0.5mm, Thermal Pad 2.8x2.8mm, IPC Medium Density)
footprint QFN-ML20_L (QFN, 20-Leads, Body 4x4mm, Pitch 0.5mm, Thermal Pad 2.8x2.8mm, IPC High Density)
footprint QFN-ML20_M (QFN, 20-Leads, Body 4x4mm, Pitch 0.5mm, Thermal Pad 2.8x2.8mm, IPC Low Density)
pins: 1 P3B, 2 HVC/A0 (in), 3 SCL (in), 4 SDA (io), 5 VSS (power), 6 P1B, 7 P1W, 8 P1A, 9 P0A, 10 P0W, 11 P0B, 12 ~{WP} (in), 13 ~{RESET} (in), 14 A1 (in), 15 VDD (power), 16 P2B, 17 P2W, 18 P2A, 19 P3A, 20 P3W, 21 EP

## MCP4461-103E/ST
designator U?
7/8-Bit Quad I2C Digital POT with Nonvolatile Memory, 20-Pin TSSOP, Extended Temperature; Manufacturer: Microchip; PartNumber: MCP4461-103E/ST; DatasheetVersion: revA, Sep-2010; PackageVersion: revBB, Aug-2009; PackageReference: TSSOP-ST20; PackageDescription: 20-Lead Plastic Thin Shrink Small Outline (ST) - 4.4mm Body [TSSOP]; Supplier 1: Digi-Key; Supplier Part Number 1: MCP4461-103E/ST-ND; Supplier 2: Farnell; Supplier Part Number 2: 1863949; Supplier 3: Newark; Supplier Part Number 3: 91R2872; Supplier 4: Mouser; Supplier Part Number 4: 579-MCP4461-103E/ST; Mounting Technology: Surface Mount; Code_JEDEC: MO-153-AC; ComponentLink1Description: Manufacturer URL; ComponentLink1URL: http://www.microchip.com/; ComponentLink2Description: Datasheet; ComponentLink2URL: http://ww1.microchip.com/downloads/en/DeviceDoc/22265a.pdf; ComponentLink3Description: Package Specification; ComponentLink3URL: http://www.microchip.com/stellent/groups/techpub_sg/documents/packagingspec/en012702.pdf
footprint TSSOP-ST20_N (TSOP, 20-Leads, Body 6.5x4.4mm, Pitch 0.65mm, IPC Medium Density)
footprint TSSOP-ST20_L (TSOP, 20-Leads, Body 6.5x4.4mm, Pitch 0.65mm, IPC High Density)
footprint TSSOP-ST20_M (TSOP, 20-Leads, Body 6.5x4.4mm, Pitch 0.65mm, IPC Low Density)
pins: 1 P3A, 2 P3W, 3 P3B, 4 HVC/A0 (in), 5 SCL (in), 6 SDA (io), 7 VSS (power), 8 P1B, 9 P1W, 10 P1A, 11 P0A, 12 P0W, 13 P0B, 14 ~{WP} (in), 15 ~{RESET} (in), 16 A1 (in), 17 VDD (power), 18 P2B, 19 P2W, 20 P2A

## MCP4461-104E/ML
designator U?
7/8-Bit Quad I2C Digital POT with Nonvolatile Memory, 20-Pin QFN, Extended Temperature; Manufacturer: Microchip; PartNumber: MCP4461-104E/ML; DatasheetVersion: revA, Sep-2010; PackageVersion: revBB, Aug-2009; PackageReference: QFN-ML20; PackageDescription: 20-Lead Plastic Quad Flat, No Lead Package (ML) - 4x4x0.9 mm Body [QFN]; Supplier 1: Digi-Key; Supplier Part Number 1: MCP4461-104E/ML-ND; Supplier 2: Farnell; Supplier Part Number 2: 1863950; Supplier 3: Newark; Supplier Part Number 3: 91R2873; Supplier 4: Mouser; Supplier Part Number 4: 579-MCP4461-104E/ML; Mounting Technology: Surface Mount; ComponentLink1Description: Manufacturer URL; ComponentLink1URL: http://www.microchip.com/; ComponentLink2Description: Datasheet; ComponentLink2URL: http://ww1.microchip.com/downloads/en/DeviceDoc/22265a.pdf; ComponentLink3Description: Package Specification; ComponentLink3URL: http://www.microchip.com/stellent/groups/techpub_sg/documents/packagingspec/en012702.pdf
footprint QFN-ML20_N (QFN, 20-Leads, Body 4x4mm, Pitch 0.5mm, Thermal Pad 2.8x2.8mm, IPC Medium Density)
footprint QFN-ML20_L (QFN, 20-Leads, Body 4x4mm, Pitch 0.5mm, Thermal Pad 2.8x2.8mm, IPC High Density)
footprint QFN-ML20_M (QFN, 20-Leads, Body 4x4mm, Pitch 0.5mm, Thermal Pad 2.8x2.8mm, IPC Low Density)
pins: 1 P3B, 2 HVC/A0 (in), 3 SCL (in), 4 SDA (io), 5 VSS (power), 6 P1B, 7 P1W, 8 P1A, 9 P0A, 10 P0W, 11 P0B, 12 ~{WP} (in), 13 ~{RESET} (in), 14 A1 (in), 15 VDD (power), 16 P2B, 17 P2W, 18 P2A, 19 P3A, 20 P3W, 21 EP

## MCP4461-104E/ST
designator U?
7/8-Bit Quad I2C Digital POT with Nonvolatile Memory, 20-Pin TSSOP, Extended Temperature; Manufacturer: Microchip; PartNumber: MCP4461-104E/ST; DatasheetVersion: revA, Sep-2010; PackageVersion: revBB, Aug-2009; PackageReference: TSSOP-ST20; PackageDescription: 20-Lead Plastic Thin Shrink Small Outline (ST) - 4.4mm Body [TSSOP]; Supplier 1: Digi-Key; Supplier Part Number 1: MCP4461-104E/ST-ND; Supplier 2: Farnell; Supplier Part Number 2: 1863951; Supplier 3: Newark; Supplier Part Number 3: 91R2874; Supplier 4: Mouser; Supplier Part Number 4: 579-MCP4461-104E/ST; Mounting Technology: Surface Mount; Code_JEDEC: MO-153-AC; ComponentLink1Description: Manufacturer URL; ComponentLink1URL: http://www.microchip.com/; ComponentLink2Description: Datasheet; ComponentLink2URL: http://ww1.microchip.com/downloads/en/DeviceDoc/22265a.pdf; ComponentLink3Description: Package Specification; ComponentLink3URL: http://www.microchip.com/stellent/groups/techpub_sg/documents/packagingspec/en012702.pdf
footprint TSSOP-ST20_N (TSOP, 20-Leads, Body 6.5x4.4mm, Pitch 0.65mm, IPC Medium Density)
footprint TSSOP-ST20_L (TSOP, 20-Leads, Body 6.5x4.4mm, Pitch 0.65mm, IPC High Density)
footprint TSSOP-ST20_M (TSOP, 20-Leads, Body 6.5x4.4mm, Pitch 0.65mm, IPC Low Density)
pins: 1 P3A, 2 P3W, 3 P3B, 4 HVC/A0 (in), 5 SCL (in), 6 SDA (io), 7 VSS (power), 8 P1B, 9 P1W, 10 P1A, 11 P0A, 12 P0W, 13 P0B, 14 ~{WP} (in), 15 ~{RESET} (in), 16 A1 (in), 17 VDD (power), 18 P2B, 19 P2W, 20 P2A

## MCP4461-502E/ML
designator U?
7/8-Bit Quad I2C Digital POT with Nonvolatile Memory, 20-Pin QFN, Extended Temperature; Manufacturer: Microchip; PartNumber: MCP4461-502E/ML; DatasheetVersion: revA, Sep-2010; PackageVersion: revBB, Aug-2009; PackageReference: QFN-ML20; PackageDescription: 20-Lead Plastic Quad Flat, No Lead Package (ML) - 4x4x0.9 mm Body [QFN]; Supplier 1: Digi-Key; Supplier Part Number 1: MCP4461-502E/ML-ND; Supplier 2: Farnell; Supplier Part Number 2: 1863953; Supplier 3: Newark; Supplier Part Number 3: 91R2875; Supplier 4: Mouser; Supplier Part Number 4: 579-MCP4461-502E/ML; Mounting Technology: Surface Mount; ComponentLink1Description: Manufacturer URL; ComponentLink1URL: http://www.microchip.com/; ComponentLink2Description: Datasheet; ComponentLink2URL: http://ww1.microchip.com/downloads/en/DeviceDoc/22265a.pdf; ComponentLink3Description: Package Specification; ComponentLink3URL: http://www.microchip.com/stellent/groups/techpub_sg/documents/packagingspec/en012702.pdf
footprint QFN-ML20_N (QFN, 20-Leads, Body 4x4mm, Pitch 0.5mm, Thermal Pad 2.8x2.8mm, IPC Medium Density)
footprint QFN-ML20_L (QFN, 20-Leads, Body 4x4mm, Pitch 0.5mm, Thermal Pad 2.8x2.8mm, IPC High Density)
footprint QFN-ML20_M (QFN, 20-Leads, Body 4x4mm, Pitch 0.5mm, Thermal Pad 2.8x2.8mm, IPC Low Density)
pins: 1 P3B, 2 HVC/A0 (in), 3 SCL (in), 4 SDA (io), 5 VSS (power), 6 P1B, 7 P1W, 8 P1A, 9 P0A, 10 P0W, 11 P0B, 12 ~{WP} (in), 13 ~{RESET} (in), 14 A1 (in), 15 VDD (power), 16 P2B, 17 P2W, 18 P2A, 19 P3A, 20 P3W, 21 EP

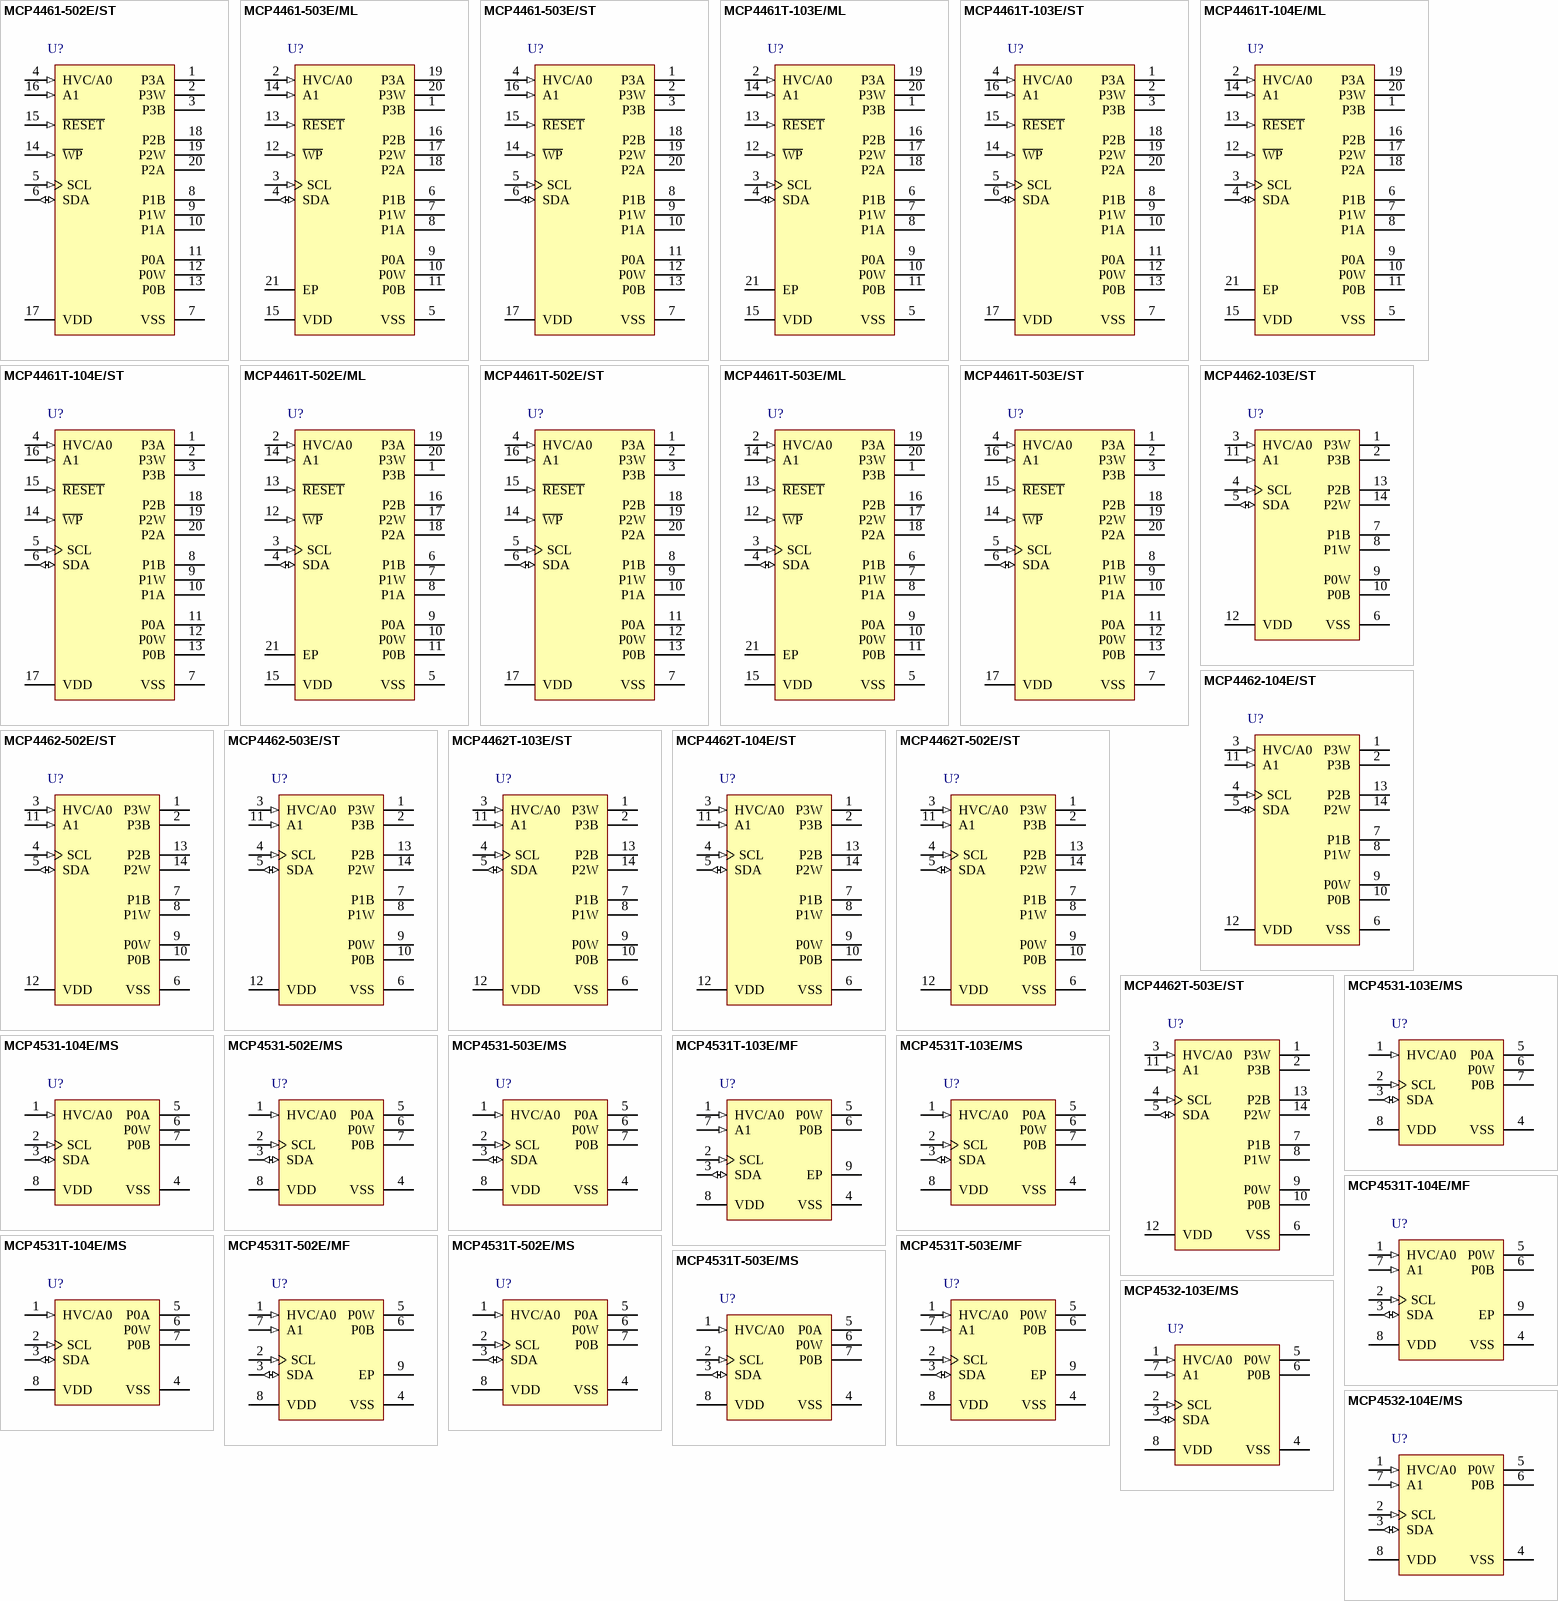
[diagram p27: symbols MCP4461-502E/ST to MCP4532-104E/MS]

## MCP4461-502E/ST
designator U?
7/8-Bit Quad I2C Digital POT with Nonvolatile Memory, 20-Pin TSSOP, Extended Temperature; Manufacturer: Microchip; PartNumber: MCP4461-502E/ST; DatasheetVersion: revA, Sep-2010; PackageVersion: revBB, Aug-2009; PackageReference: TSSOP-ST20; PackageDescription: 20-Lead Plastic Thin Shrink Small Outline (ST) - 4.4mm Body [TSSOP]; Supplier 1: Digi-Key; Supplier Part Number 1: MCP4461-502E/ST-ND; Supplier 2: Newark; Supplier Part Number 2: 73T0711; Supplier 3: Mouser; Supplier Part Number 3: 579-MCP4461502EST; Mounting Technology: Surface Mount; Code_JEDEC: MO-153-AC; ComponentLink1Description: Manufacturer URL; ComponentLink1URL: http://www.microchip.com/; ComponentLink2Description: Datasheet; ComponentLink2URL: http://ww1.microchip.com/downloads/en/DeviceDoc/22265a.pdf; ComponentLink3Description: Package Specification; ComponentLink3URL: http://www.microchip.com/stellent/groups/techpub_sg/documents/packagingspec/en012702.pdf
footprint TSSOP-ST20_N (TSOP, 20-Leads, Body 6.5x4.4mm, Pitch 0.65mm, IPC Medium Density)
footprint TSSOP-ST20_L (TSOP, 20-Leads, Body 6.5x4.4mm, Pitch 0.65mm, IPC High Density)
footprint TSSOP-ST20_M (TSOP, 20-Leads, Body 6.5x4.4mm, Pitch 0.65mm, IPC Low Density)
pins: 1 P3A, 2 P3W, 3 P3B, 4 HVC/A0 (in), 5 SCL (in), 6 SDA (io), 7 VSS (power), 8 P1B, 9 P1W, 10 P1A, 11 P0A, 12 P0W, 13 P0B, 14 ~{WP} (in), 15 ~{RESET} (in), 16 A1 (in), 17 VDD (power), 18 P2B, 19 P2W, 20 P2A

## MCP4461-503E/ML
designator U?
7/8-Bit Quad I2C Digital POT with Nonvolatile Memory, 20-Pin QFN, Extended Temperature; Manufacturer: Microchip; PartNumber: MCP4461-503E/ML; DatasheetVersion: revA, Sep-2010; PackageVersion: revBB, Aug-2009; PackageReference: QFN-ML20; PackageDescription: 20-Lead Plastic Quad Flat, No Lead Package (ML) - 4x4x0.9 mm Body [QFN]; Supplier 1: Digi-Key; Supplier Part Number 1: MCP4461-503E/ML-ND; Supplier 2: Newark; Supplier Part Number 2: 47W6611; Supplier 3: Mouser; Supplier Part Number 3: 579-MCP4461-503E/ML; Mounting Technology: Surface Mount; ComponentLink1Description: Manufacturer URL; ComponentLink1URL: http://www.microchip.com/; ComponentLink2Description: Datasheet; ComponentLink2URL: http://ww1.microchip.com/downloads/en/DeviceDoc/22265a.pdf; ComponentLink3Description: Package Specification; ComponentLink3URL: http://www.microchip.com/stellent/groups/techpub_sg/documents/packagingspec/en012702.pdf
footprint QFN-ML20_N (QFN, 20-Leads, Body 4x4mm, Pitch 0.5mm, Thermal Pad 2.8x2.8mm, IPC Medium Density)
footprint QFN-ML20_L (QFN, 20-Leads, Body 4x4mm, Pitch 0.5mm, Thermal Pad 2.8x2.8mm, IPC High Density)
footprint QFN-ML20_M (QFN, 20-Leads, Body 4x4mm, Pitch 0.5mm, Thermal Pad 2.8x2.8mm, IPC Low Density)
pins: 1 P3B, 2 HVC/A0 (in), 3 SCL (in), 4 SDA (io), 5 VSS (power), 6 P1B, 7 P1W, 8 P1A, 9 P0A, 10 P0W, 11 P0B, 12 ~{WP} (in), 13 ~{RESET} (in), 14 A1 (in), 15 VDD (power), 16 P2B, 17 P2W, 18 P2A, 19 P3A, 20 P3W, 21 EP

## MCP4461-503E/ST
designator U?
7/8-Bit Quad I2C Digital POT with Nonvolatile Memory, 20-Pin TSSOP, Extended Temperature; Manufacturer: Microchip; PartNumber: MCP4461-503E/ST; DatasheetVersion: revA, Sep-2010; PackageVersion: revBB, Aug-2009; PackageReference: TSSOP-ST20; PackageDescription: 20-Lead Plastic Thin Shrink Small Outline (ST) - 4.4mm Body [TSSOP]; Supplier 1: Digi-Key; Supplier Part Number 1: MCP4461-503E/ST-ND; Supplier 2: Newark; Supplier Part Number 2: 73T0712; Supplier 3: Mouser; Supplier Part Number 3: 579-MCP4461503EST; Mounting Technology: Surface Mount; Code_JEDEC: MO-153-AC; ComponentLink1Description: Manufacturer URL; ComponentLink1URL: http://www.microchip.com/; ComponentLink2Description: Datasheet; ComponentLink2URL: http://ww1.microchip.com/downloads/en/DeviceDoc/22265a.pdf; ComponentLink3Description: Package Specification; ComponentLink3URL: http://www.microchip.com/stellent/groups/techpub_sg/documents/packagingspec/en012702.pdf
footprint TSSOP-ST20_N (TSOP, 20-Leads, Body 6.5x4.4mm, Pitch 0.65mm, IPC Medium Density)
footprint TSSOP-ST20_L (TSOP, 20-Leads, Body 6.5x4.4mm, Pitch 0.65mm, IPC High Density)
footprint TSSOP-ST20_M (TSOP, 20-Leads, Body 6.5x4.4mm, Pitch 0.65mm, IPC Low Density)
pins: 1 P3A, 2 P3W, 3 P3B, 4 HVC/A0 (in), 5 SCL (in), 6 SDA (io), 7 VSS (power), 8 P1B, 9 P1W, 10 P1A, 11 P0A, 12 P0W, 13 P0B, 14 ~{WP} (in), 15 ~{RESET} (in), 16 A1 (in), 17 VDD (power), 18 P2B, 19 P2W, 20 P2A

## MCP4461T-103E/ML
designator U?
7/8-Bit Quad I2C Digital POT with Nonvolatile Memory, 20-Pin QFN, Extended Temperature, Tape and Reel; Manufacturer: Microchip; PartNumber: MCP4461T-103E/ML; DatasheetVersion: revA, Sep-2010; PackageVersion: revBB, Aug-2009; PackageReference: QFN-ML20; PackageDescription: 20-Lead Plastic Quad Flat, No Lead Package (ML) - 4x4x0.9 mm Body [QFN]; Supplier 1: Digi-Key; Supplier Part Number 1: MCP4461T-103E/ML-ND; Supplier 2: Mouser; Supplier Part Number 2: 579-MCP4461T-103E/ML; Mounting Technology: Surface Mount; ComponentLink1Description: Manufacturer URL; ComponentLink1URL: http://www.microchip.com/; ComponentLink2Description: Datasheet; ComponentLink2URL: http://ww1.microchip.com/downloads/en/DeviceDoc/22265a.pdf; ComponentLink3Description: Package Specification; ComponentLink3URL: http://www.microchip.com/stellent/groups/techpub_sg/documents/packagingspec/en012702.pdf
footprint QFN-ML20_N (QFN, 20-Leads, Body 4x4mm, Pitch 0.5mm, Thermal Pad 2.8x2.8mm, IPC Medium Density)
footprint QFN-ML20_L (QFN, 20-Leads, Body 4x4mm, Pitch 0.5mm, Thermal Pad 2.8x2.8mm, IPC High Density)
footprint QFN-ML20_M (QFN, 20-Leads, Body 4x4mm, Pitch 0.5mm, Thermal Pad 2.8x2.8mm, IPC Low Density)
pins: 1 P3B, 2 HVC/A0 (in), 3 SCL (in), 4 SDA (io), 5 VSS (power), 6 P1B, 7 P1W, 8 P1A, 9 P0A, 10 P0W, 11 P0B, 12 ~{WP} (in), 13 ~{RESET} (in), 14 A1 (in), 15 VDD (power), 16 P2B, 17 P2W, 18 P2A, 19 P3A, 20 P3W, 21 EP

## MCP4461T-103E/ST
designator U?
7/8-Bit Quad I2C Digital POT with Nonvolatile Memory, 20-Pin TSSOP, Extended Temperature, Tape and Reel; Manufacturer: Microchip; PartNumber: MCP4461T-103E/ST; DatasheetVersion: revA, Sep-2010; PackageVersion: revBB, Aug-2009; PackageReference: TSSOP-ST20; PackageDescription: 20-Lead Plastic Thin Shrink Small Outline (ST) - 4.4mm Body [TSSOP]; Supplier 1: Digi-Key; Supplier Part Number 1: MCP4461T-103E/ST-ND; Supplier 2: Mouser; Supplier Part Number 2: 579-MCP4461T-103E/ST; Mounting Technology: Surface Mount; Code_JEDEC: MO-153-AC; ComponentLink1Description: Manufacturer URL; ComponentLink1URL: http://www.microchip.com/; ComponentLink2Description: Datasheet; ComponentLink2URL: http://ww1.microchip.com/downloads/en/DeviceDoc/22265a.pdf; ComponentLink3Description: Package Specification; ComponentLink3URL: http://www.microchip.com/stellent/groups/techpub_sg/documents/packagingspec/en012702.pdf
footprint TSSOP-ST20_N (TSOP, 20-Leads, Body 6.5x4.4mm, Pitch 0.65mm, IPC Medium Density)
footprint TSSOP-ST20_L (TSOP, 20-Leads, Body 6.5x4.4mm, Pitch 0.65mm, IPC High Density)
footprint TSSOP-ST20_M (TSOP, 20-Leads, Body 6.5x4.4mm, Pitch 0.65mm, IPC Low Density)
pins: 1 P3A, 2 P3W, 3 P3B, 4 HVC/A0 (in), 5 SCL (in), 6 SDA (io), 7 VSS (power), 8 P1B, 9 P1W, 10 P1A, 11 P0A, 12 P0W, 13 P0B, 14 ~{WP} (in), 15 ~{RESET} (in), 16 A1 (in), 17 VDD (power), 18 P2B, 19 P2W, 20 P2A

## MCP4461T-104E/ML
designator U?
7/8-Bit Quad I2C Digital POT with Nonvolatile Memory, 20-Pin QFN, Extended Temperature, Tape and Reel; Manufacturer: Microchip; PartNumber: MCP4461T-104E/ML; DatasheetVersion: revA, Sep-2010; PackageVersion: revBB, Aug-2009; PackageReference: QFN-ML20; PackageDescription: 20-Lead Plastic Quad Flat, No Lead Package (ML) - 4x4x0.9 mm Body [QFN]; Supplier 1: Digi-Key; Supplier Part Number 1: MCP4461T-104E/ML-ND; Supplier 2: Mouser; Supplier Part Number 2: 579-MCP4461T-104E/ML; Mounting Technology: Surface Mount; ComponentLink1Description: Manufacturer URL; ComponentLink1URL: http://www.microchip.com/; ComponentLink2Description: Datasheet; ComponentLink2URL: http://ww1.microchip.com/downloads/en/DeviceDoc/22265a.pdf; ComponentLink3Description: Package Specification; ComponentLink3URL: http://www.microchip.com/stellent/groups/techpub_sg/documents/packagingspec/en012702.pdf
footprint QFN-ML20_N (QFN, 20-Leads, Body 4x4mm, Pitch 0.5mm, Thermal Pad 2.8x2.8mm, IPC Medium Density)
footprint QFN-ML20_L (QFN, 20-Leads, Body 4x4mm, Pitch 0.5mm, Thermal Pad 2.8x2.8mm, IPC High Density)
footprint QFN-ML20_M (QFN, 20-Leads, Body 4x4mm, Pitch 0.5mm, Thermal Pad 2.8x2.8mm, IPC Low Density)
pins: 1 P3B, 2 HVC/A0 (in), 3 SCL (in), 4 SDA (io), 5 VSS (power), 6 P1B, 7 P1W, 8 P1A, 9 P0A, 10 P0W, 11 P0B, 12 ~{WP} (in), 13 ~{RESET} (in), 14 A1 (in), 15 VDD (power), 16 P2B, 17 P2W, 18 P2A, 19 P3A, 20 P3W, 21 EP

## MCP4461T-104E/ST
designator U?
7/8-Bit Quad I2C Digital POT with Nonvolatile Memory, 20-Pin TSSOP, Extended Temperature, Tape and Reel; Manufacturer: Microchip; PartNumber: MCP4461T-104E/ST; DatasheetVersion: revA, Sep-2010; PackageVersion: revBB, Aug-2009; PackageReference: TSSOP-ST20; PackageDescription: 20-Lead Plastic Thin Shrink Small Outline (ST) - 4.4mm Body [TSSOP]; Supplier 1: Digi-Key; Supplier Part Number 1: MCP4461T-104E/ST-ND; Supplier 2: Mouser; Supplier Part Number 2: 579-MCP4461T-104E/ST; Mounting Technology: Surface Mount; Code_JEDEC: MO-153-AC; ComponentLink1Description: Manufacturer URL; ComponentLink1URL: http://www.microchip.com/; ComponentLink2Description: Datasheet; ComponentLink2URL: http://ww1.microchip.com/downloads/en/DeviceDoc/22265a.pdf; ComponentLink3Description: Package Specification; ComponentLink3URL: http://www.microchip.com/stellent/groups/techpub_sg/documents/packagingspec/en012702.pdf
footprint TSSOP-ST20_N (TSOP, 20-Leads, Body 6.5x4.4mm, Pitch 0.65mm, IPC Medium Density)
footprint TSSOP-ST20_L (TSOP, 20-Leads, Body 6.5x4.4mm, Pitch 0.65mm, IPC High Density)
footprint TSSOP-ST20_M (TSOP, 20-Leads, Body 6.5x4.4mm, Pitch 0.65mm, IPC Low Density)
pins: 1 P3A, 2 P3W, 3 P3B, 4 HVC/A0 (in), 5 SCL (in), 6 SDA (io), 7 VSS (power), 8 P1B, 9 P1W, 10 P1A, 11 P0A, 12 P0W, 13 P0B, 14 ~{WP} (in), 15 ~{RESET} (in), 16 A1 (in), 17 VDD (power), 18 P2B, 19 P2W, 20 P2A